# Altium footprint library Linear Technology.PcbLib: 25 footprints (part 1 of 2)
Each footprint in its own frame and in the unit in brackets; x right, y up, seen from the top. Pads: shape width x height; smd on the part's side, far side on the other; paste and mask are expansions set on the pad; w line width, h text height; cw(c..) or ccw(c..) is an arc to the next point about the centre after c.
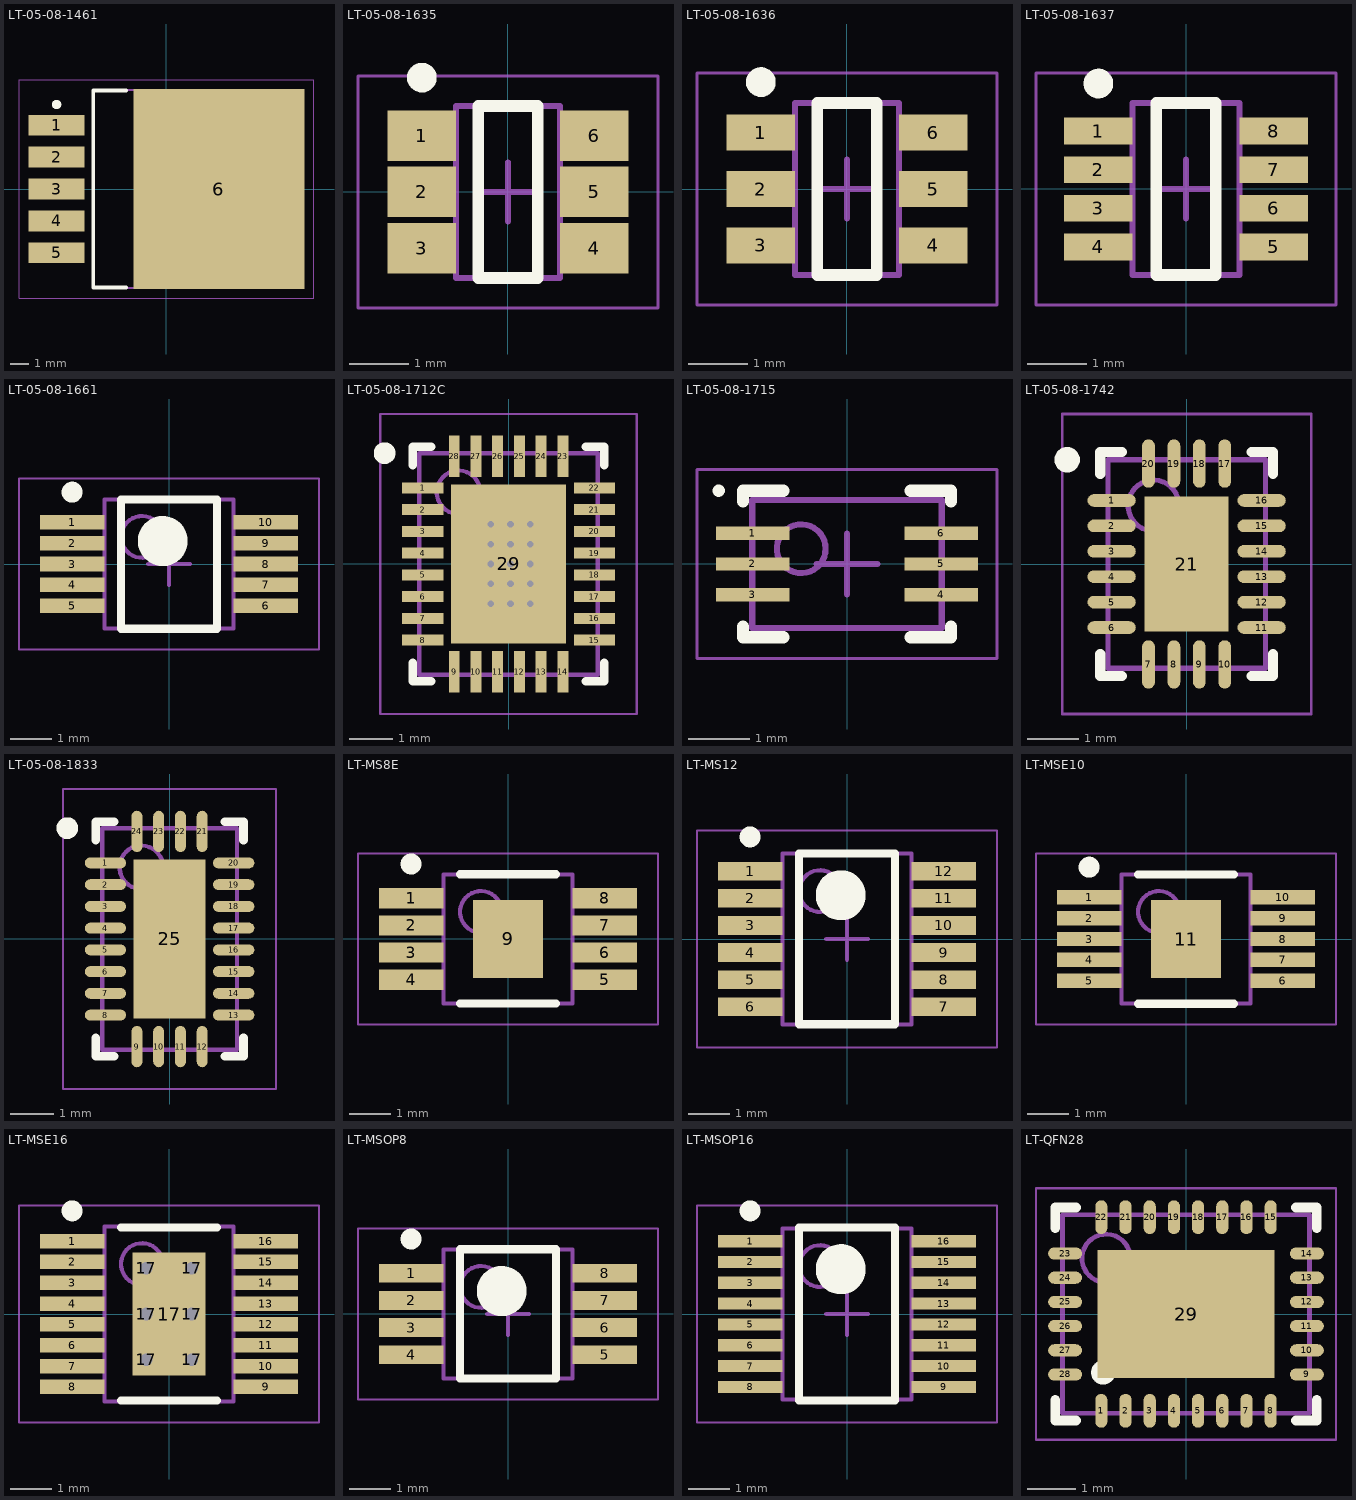
[diagram p0: the footprints below, top view; thin cyan lines are the x and y axes]

## LT-05-08-1461 [mm] "TO, 6-Pads, Body 7.80x8.63mm (max), IPC Low Density"
height 4.58
pads (6):
  rect 3x1.1 smd: 1(-5.85,3.4) 2(-5.85,1.7) 3(-5.85,0) 4(-5.85,-1.7) 5(-5.85,-3.4)
  rect 9.1x10.65 smd: 6(2.8,0)
Top Overlay:
  circle w0.25: c-5.85,4.5 r0.125
  lines w0.2: -2.15,-5.25 -3.9,-5.25 -3.9,5.25 -2.15,5.25
Mechanical 13:
  lines w0.1: -3.9,-5.275 -3.9,5.275 5.5,5.275 5.5,-5.275 -3.9,-5.275
Mechanical 15:
  lines w0.05: -7.85,-5.825 -7.85,5.825 7.85,5.825 7.85,-5.825 -7.85,-5.825
  lines w0.1: -0.5,0 0.5,0 ; 0,-0.5 0,0.5
3D body "LT-05-08-1461.step": height 4.57, standoff 0, extent -5.983,-5.275 7.185,5.275

## LT-05-08-1635 [mm] "SOT23, 6-Leads, Body 2.90x2.80mm, Pitch 0.95mm, IPC Low Density"
height 1
pads (6):
  rect 1.15x0.85 smd: 1(-1.45,0.95) 2(-1.45,0) 3(-1.45,-0.95) 4(1.45,-0.95) 5(1.45,0) 6(1.45,0.95)
Top Overlay:
  circle w0.25: c-1.45,1.925 r0.125
  lines w0.2: -0.5,-1.45 -0.5,1.45 0.5,1.45 0.5,-1.45 -0.5,-1.45
Mechanical 13:
  lines w0.1: -0.875,-1.45 0.875,-1.45 0.875,1.45 -0.875,1.45 -0.875,-1.45
Mechanical 15:
  lines w0.05: -2.525,-1.95 2.525,-1.95 2.525,1.95 -2.525,1.95 -2.525,-1.95
  lines w0.1: -0.5,0 0.5,0 ; 0,-0.5 0,0.5
3D body "LT-05-08-1635.step": height 1, standoff 0, extent -1.4,-1.45 1.4,1.45

## LT-05-08-1636 [mm] "SOT23, 6-Leads, Body 2.90x2.80mm, Pitch 0.95mm, IPC Low Density"
height 1
pads (6):
  rect 1.15x0.6 smd: 1(-1.45,0.95) 2(-1.45,0) 3(-1.45,-0.95) 4(1.45,-0.95) 5(1.45,0) 6(1.45,0.95)
Top Overlay:
  circle w0.25: c-1.45,1.8 r0.125
  lines w0.2: -0.5,-1.45 0.5,-1.45 0.5,1.45 -0.5,1.45 -0.5,-1.45
Mechanical 13:
  lines w0.1: -0.875,-1.45 -0.875,1.45 0.875,1.45 0.875,-1.45 -0.875,-1.45
Mechanical 15:
  lines w0.05: -2.525,-1.95 -2.525,1.95 2.525,1.95 2.525,-1.95 -2.525,-1.95
  lines w0.1: -0.5,0 0.5,0 ; 0,-0.5 0,0.5
3D body "LT-05-08-1636.step": height 1, standoff 0, extent -1.4,-1.45 1.4,1.45

## LT-05-08-1637 [mm] "TSOP, 8-Leads, Body 2.90x1.63mm, Pitch 0.65mm, IPC Low Density"
height 1
pads (8):
  rect 1.15x0.45 smd: 1(-1.475,0.975) 2(-1.475,0.325) 3(-1.475,-0.325) 4(-1.475,-0.975) 5(1.475,-0.975) 6(1.475,-0.325) 7(1.475,0.325) 8(1.475,0.975)
Top Overlay:
  circle w0.25: c-1.475,1.775 r0.125
  lines w0.2: -0.5,-1.45 0.5,-1.45 0.5,1.45 -0.5,1.45 -0.5,-1.45
Mechanical 2:
  lines w0.1: -0.9,-1.45 0.9,-1.45 0.9,1.45 -0.9,1.45 -0.9,-1.45
Mechanical 4:
  lines w0.05: -2.525,-1.95 2.525,-1.95 2.525,1.95 -2.525,1.95 -2.525,-1.95
  lines w0.1: -0.5,0 0.5,0 ; 0,-0.5 0,0.5
3D body "LT-05-08-1637.step": height 1, standoff 0, extent -1.4,-1.45 1.4,1.45

## LT-05-08-1661 [mm] "TSSOP, 10-Leads, Body 3.00x3.00mm, Pitch 0.50mm, IPC Low Density"
height 1.1
pads (10):
  rect 1.55x0.35 smd: 1(-2.325,1) 2(-2.325,0.5) 3(-2.325,0) 4(-2.325,-0.5) 5(-2.325,-1) 6(2.325,-1) 7(2.325,-0.5) 8(2.325,0) 9(2.325,0.5) 10(2.325,1)
Top Overlay:
  circle w0.6: c-0.15,0.55 r0.3
  circle w0.25: c-2.325,1.725 r0.125
  lines w0.2: -1.15,-1.55 1.15,-1.55 1.15,1.55 -1.15,1.55 -1.15,-1.55
Mechanical 13:
  circle w0.1: c-0.65,0.65 r0.5
  lines w0.1: -1.55,-1.55 1.55,-1.55 1.55,1.55 -1.55,1.55 -1.55,-1.55
Mechanical 15:
  lines w0.05: -3.6,-2.05 3.6,-2.05 3.6,2.05 -3.6,2.05 -3.6,-2.05
  lines w0.1: -0.5,0 0.5,0 ; 0,-0.5 0,0.5
3D body "05-08-1661.step": height 1.09, standoff 0, extent -2.451,-1.55 2.451,1.55

## LT-05-08-1712C [mm] "QFN, 28-Leads, Body 4.00x5.00mm, Pitch 0.50mm, Thermal Pad 2.65x3.65mm, IPC Low Density"
height 0.8
pads (29):
  rect 0.95x0.25 smd: 1(-1.975,1.75) 2(-1.975,1.25) 3(-1.975,0.75) 4(-1.975,0.25) 5(-1.975,-0.25) 6(-1.975,-0.75) 7(-1.975,-1.25) 8(-1.975,-1.75) 15(1.975,-1.75) 16(1.975,-1.25) 17(1.975,-0.75) 18(1.975,-0.25) 19(1.975,0.25) 20(1.975,0.75) 21(1.975,1.25) 22(1.975,1.75)
  rect 0.25x0.95 smd: 9(-1.25,-2.475) 10(-0.75,-2.475) 11(-0.25,-2.475) 12(0.25,-2.475) 13(0.75,-2.475) 14(1.25,-2.475) 23(1.25,2.475) 24(0.75,2.475) 25(0.25,2.475) 26(-0.25,2.475) 27(-0.75,2.475) 28(-1.25,2.475)
  rect 2.65x3.65 smd: 29(0,0)
via -0.414,0.457 diameter 0.406 hole 0.152
via 0.044,0.457 diameter 0.406 hole 0.152
via 0.501,0.457 diameter 0.406 hole 0.152
via 0.501,-0.457 diameter 0.406 hole 0.152
via 0.044,-0.457 diameter 0.406 hole 0.152
via -0.414,-0.457 diameter 0.406 hole 0.152
via 0.044,0 diameter 0.406 hole 0.152
via 0.044,-0.914 diameter 0.406 hole 0.152
via 0.044,0.914 diameter 0.406 hole 0.152
via 0.501,0.914 diameter 0.406 hole 0.152
via 0.501,0 diameter 0.406 hole 0.152
via 0.501,-0.914 diameter 0.406 hole 0.152
via -0.414,0 diameter 0.406 hole 0.152
via -0.414,-0.914 diameter 0.406 hole 0.152
via -0.414,0.914 diameter 0.406 hole 0.152
Top Overlay:
  circle w0.25: c-2.85,2.55 r0.125
  lines w0.2: -2.2,-2.275 -2.2,-2.7 -1.775,-2.7 ; -2.2,2.275 -2.2,2.7 -1.775,2.7 ; 1.775,-2.7 2.2,-2.7 2.2,-2.275 ; 1.775,2.7 2.2,2.7 2.2,2.275
Mechanical 13:
  circle w0.1: c-1.15,1.65 r0.5
  lines w0.1: -2.05,-2.55 -2.05,2.55 2.05,2.55 2.05,-2.55 -2.05,-2.55
Mechanical 15:
  lines w0.05: -2.95,-3.45 -2.95,3.45 2.95,3.45 2.95,-3.45 -2.95,-3.45
  lines w0.1: -0.5,0 0.5,0 ; 0,-0.5 0,0.5
3D body "LT-05-08-1712C.step": height 0.8, standoff 0, extent -2.051,-2.551 2.051,2.551

## LT-05-08-1715 [mm] "SON, 6-Leads, Body 2.00x3.00mm, Pitch 0.50mm, Thermal Pad 1.35x1.49mm, IPC Low Density"
height 0.8
pads (6):
  rect 1.2x0.22 smd mask+0.08: 1(-1.545,0.5) 2(-1.545,0) 3(-1.545,-0.5) 4(1.545,-0.5) 5(1.545,0) 6(1.545,0.5)
Top Overlay:
  circle w0.1: c-2.1,1.2 r0.05
  lines w0.2: -1.7,-1.025 -1.7,-1.2 -1.045,-1.2 ; -1.7,1.025 -1.7,1.2 -1.045,1.2 ; 1.045,-1.2 1.7,-1.2 1.7,-1.025 ; 1.045,1.2 1.7,1.2 1.7,1.025
Mechanical 13:
  circle w0.1: c-0.75,0.25 r0.4
  lines w0.1: -1.55,-1.05 -1.55,1.05 1.55,1.05 1.55,-1.05 -1.55,-1.05
Mechanical 15:
  lines w0.05: -2.455,-1.55 -2.455,1.55 2.455,1.55 2.455,-1.55 -2.455,-1.55
  lines w0.1: -0.5,0 0.5,0 ; 0,-0.5 0,0.5
3D body "LT-05-081715.step": height 0.8, standoff 0, extent -1.551,-1.05 1.551,1.05

## LT-05-08-1742 [mm] "QFN, 20-Leads, Body 3.00x4.00mm, Pitch 0.50mm, Thermal Pad 1.65x2.65mm, IPC Low Density"
height 0.8
pads (21):
  oval 0.95x0.25 smd: 1(-1.475,1.25) 2(-1.475,0.75) 3(-1.475,0.25) 4(-1.475,-0.25) 5(-1.475,-0.75) 6(-1.475,-1.25) 11(1.475,-1.25) 12(1.475,-0.75) 13(1.475,-0.25) 14(1.475,0.25) 15(1.475,0.75) 16(1.475,1.25)
  oval 0.25x0.95 smd: 7(-0.75,-1.975) 8(-0.25,-1.975) 9(0.25,-1.975) 10(0.75,-1.975) 17(0.75,1.975) 18(0.25,1.975) 19(-0.25,1.975) 20(-0.75,1.975)
  rect 1.65x2.65 smd: 21(0,0)
Top Overlay:
  circle w0.25: c-2.35,2.05 r0.125
  lines w0.2: -1.7,-1.775 -1.7,-2.2 -1.275,-2.2 ; -1.7,1.775 -1.7,2.2 -1.275,2.2 ; 1.275,-2.2 1.7,-2.2 1.7,-1.775 ; 1.275,2.2 1.7,2.2 1.7,1.775
Mechanical 13:
  circle w0.1: c-0.65,1.15 r0.5
  lines w0.1: -1.55,-2.05 1.55,-2.05 1.55,2.05 -1.55,2.05 -1.55,-2.05
Mechanical 15:
  lines w0.05: -2.45,-2.95 2.45,-2.95 2.45,2.95 -2.45,2.95 -2.45,-2.95
  lines w0.1: -0.5,0 0.5,0 ; 0,-0.5 0,0.5
3D body "LT-05-08-1742.step": height 0.8, standoff 0, extent -1.551,-2.051 1.551,2.051

## LT-05-08-1833 [mm] "QFN, 24-Leads, Body 3.00x5.00mm, Pitch 0.50mm, Thermal Pad 1.65x3.65mm, IPC Low Density"
height 0.8
pads (25):
  oval 0.95x0.25 smd: 1(-1.475,1.75) 2(-1.475,1.25) 3(-1.475,0.75) 4(-1.475,0.25) 5(-1.475,-0.25) 6(-1.475,-0.75) 7(-1.475,-1.25) 8(-1.475,-1.75) 13(1.475,-1.75) 14(1.475,-1.25) 15(1.475,-0.75) 16(1.475,-0.25) 17(1.475,0.25) 18(1.475,0.75) 19(1.475,1.25) 20(1.475,1.75)
  oval 0.25x0.95 smd: 9(-0.75,-2.475) 10(-0.25,-2.475) 11(0.25,-2.475) 12(0.75,-2.475) 21(0.75,2.475) 22(0.25,2.475) 23(-0.25,2.475) 24(-0.75,2.475)
  rect 1.65x3.65 smd: 25(0,0)
Top Overlay:
  circle w0.25: c-2.35,2.55 r0.125
  lines w0.2: -1.7,-2.275 -1.7,-2.7 -1.275,-2.7 ; -1.7,2.275 -1.7,2.7 -1.275,2.7 ; 1.275,-2.7 1.7,-2.7 1.7,-2.275 ; 1.275,2.7 1.7,2.7 1.7,2.275
Mechanical 13:
  circle w0.1: c-0.65,1.65 r0.5
  lines w0.1: -1.55,-2.55 -1.55,2.55 1.55,2.55 1.55,-2.55 -1.55,-2.55
Mechanical 15:
  lines w0.05: -2.45,-3.45 -2.45,3.45 2.45,3.45 2.45,-3.45 -2.45,-3.45
  lines w0.1: -0.5,0 0.5,0 ; 0,-0.5 0,0.5
3D body "LY-05-08-1833.step": height 0.8, standoff 0, extent -1.551,-2.551 1.551,2.551

## LT-MS8E [mm] "TSOP, 8-Leads, Body 3.00x3.00mm, Pitch 0.65mm, Thermal Pad 1.88x1.68mm, IPC Low Density"
height 1.1
pads (9):
  rect 1.55x0.49 smd: 1(-2.325,0.975) 2(-2.325,0.325) 3(-2.325,-0.325) 4(-2.325,-0.975) 5(2.325,-0.975) 6(2.325,-0.325) 7(2.325,0.325) 8(2.325,0.975)
  rect 1.68x1.88 smd: 9(0,0)
Top Overlay:
  circle w0.25: c-2.325,1.8 r0.125
  lines w0.2: -1.15,-1.55 1.15,-1.55 ; -1.15,1.55 1.15,1.55
Mechanical 2:
  circle w0.1: c-0.65,0.65 r0.5
  lines w0.1: -1.55,-1.55 -1.55,1.55 1.55,1.55 1.55,-1.55 -1.55,-1.55
Mechanical 4:
  lines w0.05: -3.6,-2.05 -3.6,2.05 3.6,2.05 3.6,-2.05 -3.6,-2.05
  lines w0.1: -0.5,0 0.5,0 ; 0,-0.5 0,0.5
3D body "LT-MS8E.step": height 1.09, standoff 0, extent -2.451,-1.55 2.451,1.55

## LT-MS12 [mm] "TSOP, 12-Leads, Body 4.04x3.00mm, Pitch 0.65mm, IPC Low Density"
height 1.1
pads (12):
  rect 1.55x0.447 smd: 1(-2.325,1.625) 2(-2.325,0.975) 3(-2.325,0.325) 4(-2.325,-0.325) 5(-2.325,-0.975) 6(-2.325,-1.625) 7(2.325,-1.625) 8(2.325,-0.975) 9(2.325,-0.325) 10(2.325,0.325) 11(2.325,0.975) 12(2.325,1.625)
Top Overlay:
  circle w0.6: c-0.15,1.05 r0.3
  circle w0.25: c-2.325,2.45 r0.125
  lines w0.2: -1.15,-2.05 1.15,-2.05 1.15,2.05 -1.15,2.05 -1.15,-2.05
Mechanical 2:
  circle w0.1: c-0.65,1.15 r0.5
  lines w0.1: -1.55,-2.05 -1.55,2.05 1.55,2.05 1.55,-2.05 -1.55,-2.05
Mechanical 4:
  lines w0.05: -3.6,-2.6 -3.6,2.6 3.6,2.6 3.6,-2.6 -3.6,-2.6
  lines w0.1: -0.5,0 0.5,0 ; 0,-0.5 0,0.5
3D body "LT-MS12.step": height 1.1, standoff 0, extent -2.45,-2.05 2.45,2.05

## LT-MSE10 [mm] "TSSOP, 10-Leads, Body 3.00x3.00mm, Pitch 0.50mm, Thermal Pad 1.88x1.68mm, IPC Low Density"
height 1.1
pads (11):
  rect 1.55x0.347 smd: 1(-2.325,1) 2(-2.325,0.5) 3(-2.325,0) 4(-2.325,-0.5) 5(-2.325,-1) 6(2.325,-1) 7(2.325,-0.5) 8(2.325,0) 9(2.325,0.5) 10(2.325,1)
  rect 1.68x1.88 smd: 11(0,0)
Top Overlay:
  circle w0.25: c-2.325,1.725 r0.125
  lines w0.2: -1.15,-1.55 1.15,-1.55 ; -1.15,1.55 1.15,1.55
Mechanical 2:
  circle w0.1: c-0.65,0.65 r0.5
  lines w0.1: -1.55,-1.55 -1.55,1.55 1.55,1.55 1.55,-1.55 -1.55,-1.55
Mechanical 4:
  lines w0.05: -3.6,-2.05 -3.6,2.05 3.6,2.05 3.6,-2.05 -3.6,-2.05
  lines w0.1: -0.5,0 0.5,0 ; 0,-0.5 0,0.5
3D body "LTC-MSE.step": height 1.1, standoff 0, extent -2.451,-1.55 2.451,1.55

## LT-MSE16 [mm] "TSSOP, 16-Leads, Body 4.05x3.00mm, Pitch 0.50mm, Thermal Pad 2.95x1.76mm, IPC Low Density"
height 1.1
pads (23):
  rect 1.55x0.347 smd: 1(-2.325,1.75) 2(-2.325,1.25) 3(-2.325,0.75) 4(-2.325,0.25) 5(-2.325,-0.25) 6(-2.325,-0.75) 7(-2.325,-1.25) 8(-2.325,-1.75) 9(2.325,-1.75) 10(2.325,-1.25) 11(2.325,-0.75) 12(2.325,-0.25) 13(2.325,0.25) 14(2.325,0.75) 15(2.325,1.25) 16(2.325,1.75)
  round 0.605 hole 0.3: 17(-0.55,-1.1) 17(-0.55,0) 17(-0.55,1.1) 17(0.55,-1.1) 17(0.55,0) 17(0.55,1.1)
  rect 1.76x2.95 smd: 17(0,0)
Top Overlay:
  circle w0.25: c-2.325,2.475 r0.125
  lines w0.2: -1.15,-2.075 1.15,-2.075 ; -1.15,2.075 1.15,2.075
Mechanical 2:
  circle w0.1: c-0.65,1.2 r0.5
  lines w0.1: -1.55,-2.1 1.55,-2.1 1.55,2.1 -1.55,2.1 -1.55,-2.1
Mechanical 4:
  lines w0.05: -3.6,-2.6 3.6,-2.6 3.6,2.6 -3.6,2.6 -3.6,-2.6
  lines w0.1: -0.5,0 0.5,0 ; 0,-0.5 0,0.5
3D body "LTC-MSE16.step": height 1.1, standoff 0, extent -2.451,-2.1 2.451,2.1

## LT-MSOP8 [mm] "TSOP, 8-Leads, Body 3.00x3.00mm, Pitch 0.65mm, IPC Low Density"
height 1.1
pads (8):
  rect 1.55x0.446 smd: 1(-2.325,0.975) 2(-2.325,0.325) 3(-2.325,-0.325) 4(-2.325,-0.975) 5(2.325,-0.975) 6(2.325,-0.325) 7(2.325,0.325) 8(2.325,0.975)
Top Overlay:
  circle w0.6: c-0.15,0.55 r0.3
  circle w0.25: c-2.325,1.8 r0.125
  lines w0.2: -1.15,-1.55 1.15,-1.55 1.15,1.55 -1.15,1.55 -1.15,-1.55
Mechanical 2:
  circle w0.1: c-0.65,0.65 r0.5
  lines w0.1: -1.55,-1.55 1.55,-1.55 1.55,1.55 -1.55,1.55 -1.55,-1.55
Mechanical 4:
  lines w0.05: -3.6,-2.05 3.6,-2.05 3.6,2.05 -3.6,2.05 -3.6,-2.05
  lines w0.1: -0.5,0 0.5,0 ; 0,-0.5 0,0.5
3D body: height 1.1, standoff 0.05, extent -1.55,-1.55 1.55,1.55

## LT-MSOP16 [mm] "TSSOP, 16-Leads, Body 4.03x3.00mm, Pitch 0.50mm, IPC Low Density"
height 1.1
pads (16):
  rect 1.55x0.296 smd: 1(-2.325,1.75) 2(-2.325,1.25) 3(-2.325,0.75) 4(-2.325,0.25) 5(-2.325,-0.25) 6(-2.325,-0.75) 7(-2.325,-1.25) 8(-2.325,-1.75) 9(2.325,-1.75) 10(2.325,-1.25) 11(2.325,-0.75) 12(2.325,-0.25) 13(2.325,0.25) 14(2.325,0.75) 15(2.325,1.25) 16(2.325,1.75)
Top Overlay:
  circle w0.6: c-0.15,1.075 r0.3
  circle w0.25: c-2.325,2.475 r0.125
  lines w0.2: -1.15,-2.075 1.15,-2.075 1.15,2.075 -1.15,2.075 -1.15,-2.075
Mechanical 2:
  circle w0.1: c-0.65,1.15 r0.5
  lines w0.1: -1.55,-2.05 1.55,-2.05 1.55,2.05 -1.55,2.05 -1.55,-2.05
Mechanical 4:
  lines w0.05: -3.6,-2.6 3.6,-2.6 3.6,2.6 -3.6,2.6 -3.6,-2.6
  lines w0.1: -0.5,0 0.5,0 ; 0,-0.5 0,0.5
3D body: height 1.1, standoff 0.05, extent -1.55,-2.05 1.55,2.05

## LT-QFN28 [mm] "QFN, 28-Leads, Body 5.00x4.00mm, Pitch 0.50mm, Thermal Pad 3.65x2.65mm, IPC Medium Density"
height 0.8
pads (29):
  oval 0.25x0.7 smd: 1(-1.75,-2) 2(-1.25,-2) 3(-0.75,-2) 4(-0.25,-2) 5(0.25,-2) 6(0.75,-2) 7(1.25,-2) 8(1.75,-2) 15(1.75,2) 16(1.25,2) 17(0.75,2) 18(0.25,2) 19(-0.25,2) 20(-0.75,2) 21(-1.25,2) 22(-1.75,2)
  oval 0.7x0.25 smd: 9(2.5,-1.25) 10(2.5,-0.75) 11(2.5,-0.25) 12(2.5,0.25) 13(2.5,0.75) 14(2.5,1.25) 23(-2.5,1.25) 24(-2.5,0.75) 25(-2.5,0.25) 26(-2.5,-0.25) 27(-2.5,-0.75) 28(-2.5,-1.25)
  rect 3.65x2.65 smd: 29(0,0)
Top Overlay:
  circle w0.25: c-1.711,-1.209 r0.125
  lines w0.2: -2.7,-1.775 -2.7,-2.2 -2.275,-2.2 ; -2.7,1.775 -2.7,2.2 -2.275,2.2 ; 2.275,-2.2 2.7,-2.2 2.7,-1.775 ; 2.275,2.2 2.7,2.2 2.7,1.775
Mechanical 2:
  circle w0.1: c-1.65,1.15 r0.5
  lines w0.1: -2.55,-2.05 2.55,-2.05 2.55,2.05 -2.55,2.05 -2.55,-2.05
Mechanical 4:
  lines w0.05: -3.1,-2.6 3.1,-2.6 3.1,2.6 -3.1,2.6 -3.1,-2.6
  lines w0.1: -0.5,0 0.5,0 ; 0,-0.5 0,0.5
3D body: height 0.8, standoff 0.01, extent -2.55,-2.05 2.55,2.05